# EAGLE library part LSM9DS0 (library Andranik-Lab4)
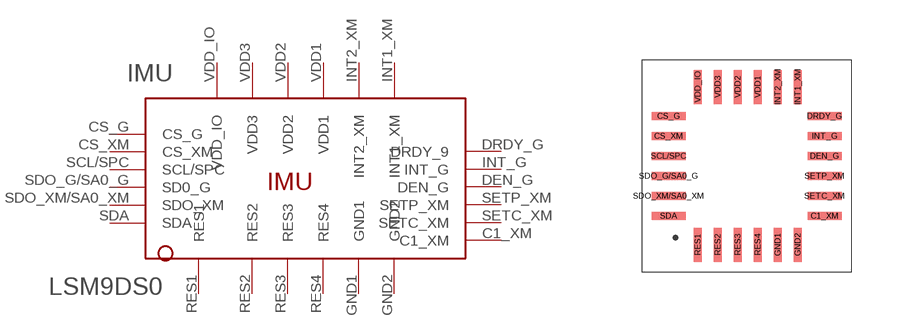
[diagram p0: symbol with the pads of LSM9DS0; footprint LSM9DS0]

Designator prefix IMU

## LSM9DS0 (CREATOR: Andranik; DIST: Digikey; DISTPN: LSM9DS0)  [LSM9DS0]
C1_XM  C1_XM
CS_G  CS_G
CS_XM  CS_XM
DEN_G  DEN_G
DRDY_G  DRDY_9
GND1  GND1
GND2  GND2
INT1_XM  INT1_XM
INT2_XM  INT2_XM
INT_G  INT_G
RES1  RES1
RES2  RES2
RES3  RES3
RES4  RES4
SCL/SPC  SCL/SPC
SDA  SDA
SDO_G/SA0_G  SD0_G
SDO_XM/SA0_XM  SDO_XM
SETC_XM  SETC_XM
SETP_XM  SETP_XM
VDD1  VDD1
VDD2  VDD2
VDD3  VDD3
VDD_IO  VDD_IO

## Footprint LSM9DS0 (pad centres in mm)
smd 0.85 x 0.2: C1_XM 1.925,-1.25; CS_G -1.975,1.25; CS_XM -1.975,0.75; DEN_G 1.925,0.25; DRDY_G 1.925,1.25; INT_G 1.925,0.75; SCL/SPC -1.975,0.25; SDA -1.975,-1.25; SDO_G/SA0_G -1.975,-0.25; SDO_XM/SA0_XM -1.975,-0.75; SETC_XM 1.925,-0.75; SETP_XM 1.925,-0.25
smd 0.2 x 0.85: GND1 0.75,-1.975; GND2 1.25,-1.975; INT1_XM 1.25,1.975; INT2_XM 0.75,1.975; RES1 -1.25,-1.975; RES2 -0.75,-1.975; RES3 -0.25,-1.975; RES4 0.25,-1.975; VDD1 0.25,1.975; VDD2 -0.25,1.975; VDD3 -0.75,1.975; VDD_IO -1.25,1.975